# EAGLE library part NFCCHIP (library Diplomarbeit)
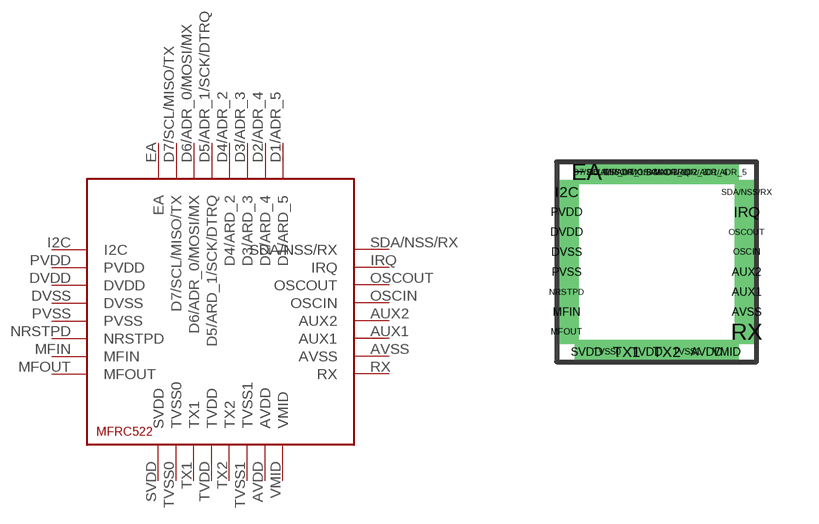
[diagram p3: symbol with the pads of NFCCHIP; footprint NFCCHIP]

Designator prefix -

## NFCCHIP  [NFCCHIP]
AUX1  AUX1
AUX2  AUX2
AVDD  AVDD
AVSS  AVSS
D1/ADR_5  D1/ARD_5
D2/ADR_4  D2/ARD_4
D3/ADR_3  D3/ARD_3
D4/ADR_2  D4/ARD_2
D5/ADR_1/SCK/DTRQ  D5/ARD_1/SCK/DTRQ
D6/ADR_0/MOSI/MX  D6/ADR_0/MOSI/MX
D7/SCL/MISO/TX  D7/SCL/MISO/TX
DVDD  DVDD
DVSS  DVSS
EA  EA
I2C  I2C
IRQ  IRQ
MFIN  MFIN
MFOUT  MFOUT
NRSTPD  NRSTPD
OSCIN  OSCIN
OSCOUT  OSCOUT
PVDD  PVDD
PVSS  PVSS
RX  RX
SDA/NSS/RX  SDA/NSS/RX
SVDD  SVDD
TVDD  TVDD
TVSS0  TVSS0
TVSS1  TVSS1
TX1  TX1
TX2  TX2
VMID  VMID

## Footprint NFCCHIP (pad centres in mm)
drill 0.1 pad 0.254 square: AUX1 2.25,-0.75; AUX2 2.25,-0.25; AVDD 1.25,-2.25; AVSS 2.25,-1.25; D1/ADR_5 1.75,2.25; D2/ADR_4 1.25,2.25; D3/ADR_3 0.75,2.25; D4/ADR_2 0.25,2.25; D5/ADR_1/SCK/DTRQ -0.25,2.25; D6/ADR_0/MOSI/MX -0.75,2.25; D7/SCL/MISO/TX -1.25,2.25; DVDD -2.25,0.75; DVSS -2.25,0.25; EA -1.75,2.25; I2C -2.25,1.75; IRQ 2.25,1.25; MFIN -2.25,-1.25; MFOUT -2.25,-1.75; NRSTPD -2.25,-0.75; OSCIN 2.25,0.25; OSCOUT 2.25,0.75; PVDD -2.25,1.25; PVSS -2.25,-0.25; RX 2.25,-1.75; SDA/NSS/RX 2.25,1.75; SVDD -1.75,-2.25; TVDD -0.25,-2.25; TVSS0 -1.25,-2.25; TVSS1 0.75,-2.25; TX1 -0.75,-2.25; TX2 0.25,-2.25; VMID 1.75,-2.25